# EAGLE library part DAC7512 (library ads4)
DAC7512 12-bit D/A Converter
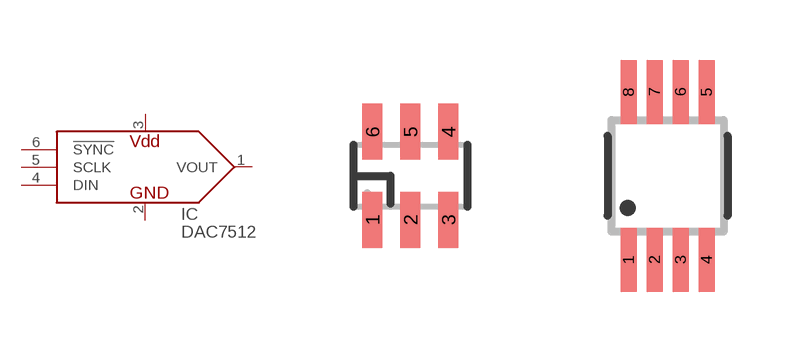
[diagram p57: symbol with the pads of SOT23-6; footprints SOT23-6, MSOP8]

Designator prefix IC

## DAC7512N  [SOT23-6]
1  VOUT  out
2  GND  pwr
3  VDD  pwr
4  DIN  in
5  SCLK  in
6  !SYNC  in

## DAC7512E  [MSOP8]
1  VDD  pwr
4  VOUT  out
5  !SYNC  in
6  SCLK  in
7  DIN  in
8  GND  pwr

## Footprint SOT23-6 (pad centres in mm)
SOT23-6 package This is the DBV6 package from Texas Instruments. It differs from the one in the Eagle libraries (there are two versions in ref-packages.lbr) in that the pad dimensions are 0.5mm x 1.4mm, as in the TI recommendation. The pin spacing is 0.95mm, and the package body has nominal dimensions 2.9mm long by 1.6mm wide.
smd 0.5 x 1.4: 1 -0.95,-1.1; 2 0,-1.1; 3 0.95,-1.1; 4 0.95,1.1; 5 0,1.1; 6 -0.95,1.1

## Footprint MSOP8 (pad centres in mm)
Micro Small Outline Package This is copied from ref-packages.lbr but the pads have been modified to have dimensions 1.6mm x 0.4mm as suggested by Texas Instruments' DGK8 package. The pin spacing is 0.65mm and the package body is nominally 3mm wide by 3mm long.
smd 0.4 x 1.6: 1 -0.975,-2.1; 2 -0.325,-2.1; 3 0.325,-2.1; 4 0.975,-2.1; 5 0.975,2.1; 6 0.325,2.1; 7 -0.325,2.1; 8 -0.975,2.1